# Altium schematic symbol library AD633JRZ.SchLib: 1 symbol
Pins are listed as number, name and electrical type; pins without a type are passive.

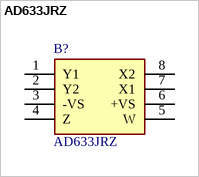
[diagram p0: symbol AD633JRZ]

## AD633JRZ
designator B?
AD633JRZ, Analogue Multiplier 4-Bits 8-Pin SOIC; Manufacturer_Name: Analog Devices; Geometry.Height: 1.75mm; Mouser Part Number: 584-AD633JRZ; Mouser Price/Stock: https://www.mouser.co.uk/ProductDetail/Analog-Devices/AD633JRZ?qs=NmRFExCfTkHsQMKUgIw9Ig%3D%3D; Manufacturer_Part_Number: AD633JRZ; Datasheet Link: http://www.analog.com/static/imported-files/data_sheets/AD633.pdf
footprint SOIC127P600X175-8N
pins: 1 Y1, 2 Y2, 3 -VS, 4 Z, 5 W, 6 +VS, 7 X1, 8 X2